# Altium footprint library Common mode choke.PcbLib: 1 footprints
Each footprint in its own frame and in the unit in brackets; x right, y up, seen from the top. Pads: shape width x height; smd on the part's side, far side on the other; paste and mask are expansions set on the pad; w line width, h text height; cw(c..) or ccw(c..) is an arc to the next point about the centre after c.
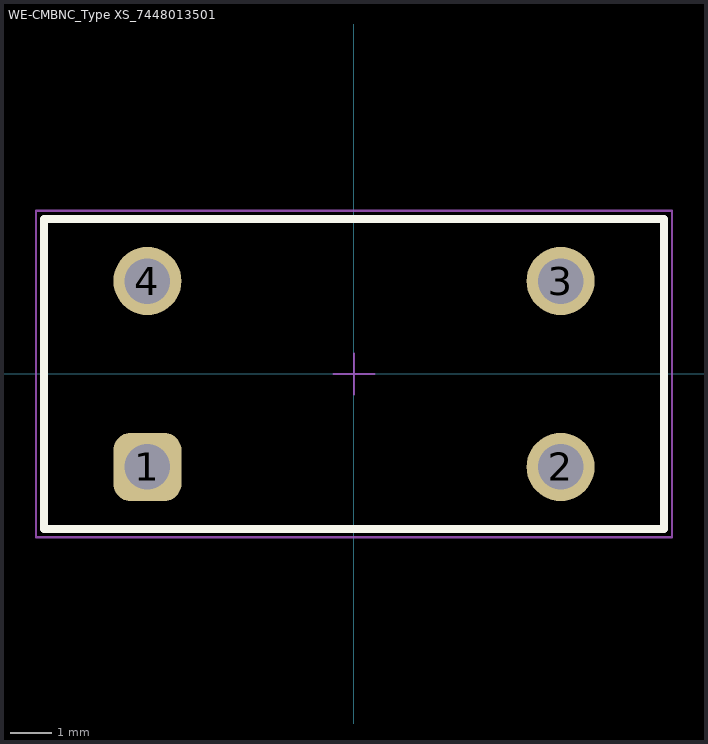
[diagram p0: the footprint, top view; thin cyan lines are the x and y axes]

## WE-CMBNC_Type XS_7448013501 [mm] "THT Common Mode Power Line Choke, 4 leads, body 15x7.5mm"
height 16
pads (4):
  rrect50% 1.65x1.65 hole 1.1: 1(-5,-2.25)
  round 1.65 hole 1.1: 2(5,-2.25) 3(5,2.25) 4(-5,2.25)
Top Overlay:
  lines w0.2: -7.5,-3.75 7.5,-3.75 7.5,3.75 -7.5,3.75 -7.5,-3.75
Top Designator:
  text ".Designator" at -7.498,-0.5 h1.5
Top Component Outline:
  lines w0.1: -7.5,-3.75 -7.5,3.75 7.5,3.75 7.5,-3.75 -7.5,-3.75
Top Courtyard:
  lines w0.05: -7.7,-3.95 7.7,-3.95 7.7,3.95 -7.7,3.95 -7.7,-3.95
Top Component Center:
  lines w0.05: -0.5,0 0.5,0 ; 0,-0.5 0,0.5
3D body "7448013501.stp": height 14.66, standoff -2.95, extent -6.255,-3.545 6.255,3.5